# Altium schematic symbol library PWM.SchLib: 1 symbol
Pins are listed as number, name and electrical type; pins without a type are passive.

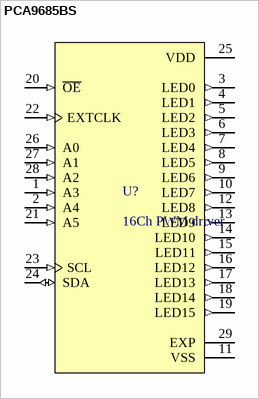
[diagram p0: symbol PCA9685BS]

## PCA9685BS
designator U?, comment 16Ch PWM driver
LED Driver IC 16 Output Linear PWM Dimming 25mA 28-HVQFN (6x6); Supplier 1: Digi-Key; Supplier Part Number 1: 568-5305-2-ND; Package / Case: 28-HVQFN (6x6); Mounted: Yes; HelpURL: https://www.nxp.com/docs/en/data-sheet/PCA9685.pdf
footprint VQFN-28 Exposed Pad
pins: 1 A3 (in), 2 A4 (in), 3 LED0 (out), 4 LED1 (out), 5 LED2 (out), 6 LED3 (out), 7 LED4 (out), 8 LED5 (out), 9 LED6 (out), 10 LED7 (out), 11 VSS (power), 12 LED8 (out), 13 LED9 (out), 14 LED10 (out), 15 LED11 (out), 16 LED12 (out), 17 LED13 (out), 18 LED14 (out), 19 LED15 (out), 20 ~{OE} (in), 21 A5 (in), 22 EXTCLK (in), 23 SCL (in), 24 SDA (io), 25 VDD (power), 26 A0 (in), 27 A1 (in), 28 A2 (in), 29 EXP (power)